# Altium schematic symbol library fyshlib.SchLib: 1 symbol
Pins are listed as number, name and electrical type; pins without a type are passive.

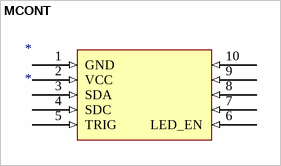
[diagram p0: symbol MCONT]

## MCONT
designator *
pins: 1 GND (in), 2 VCC (in), 3 SDA (in), 4 SDC (in), 5 TRIG (in), 6 LED_EN (in), 7 (in), 8 (in), 9 (in), 10 (in)